# Altium schematic symbol library Custom1.SchLib: 476 symbols (part 9 of 16)
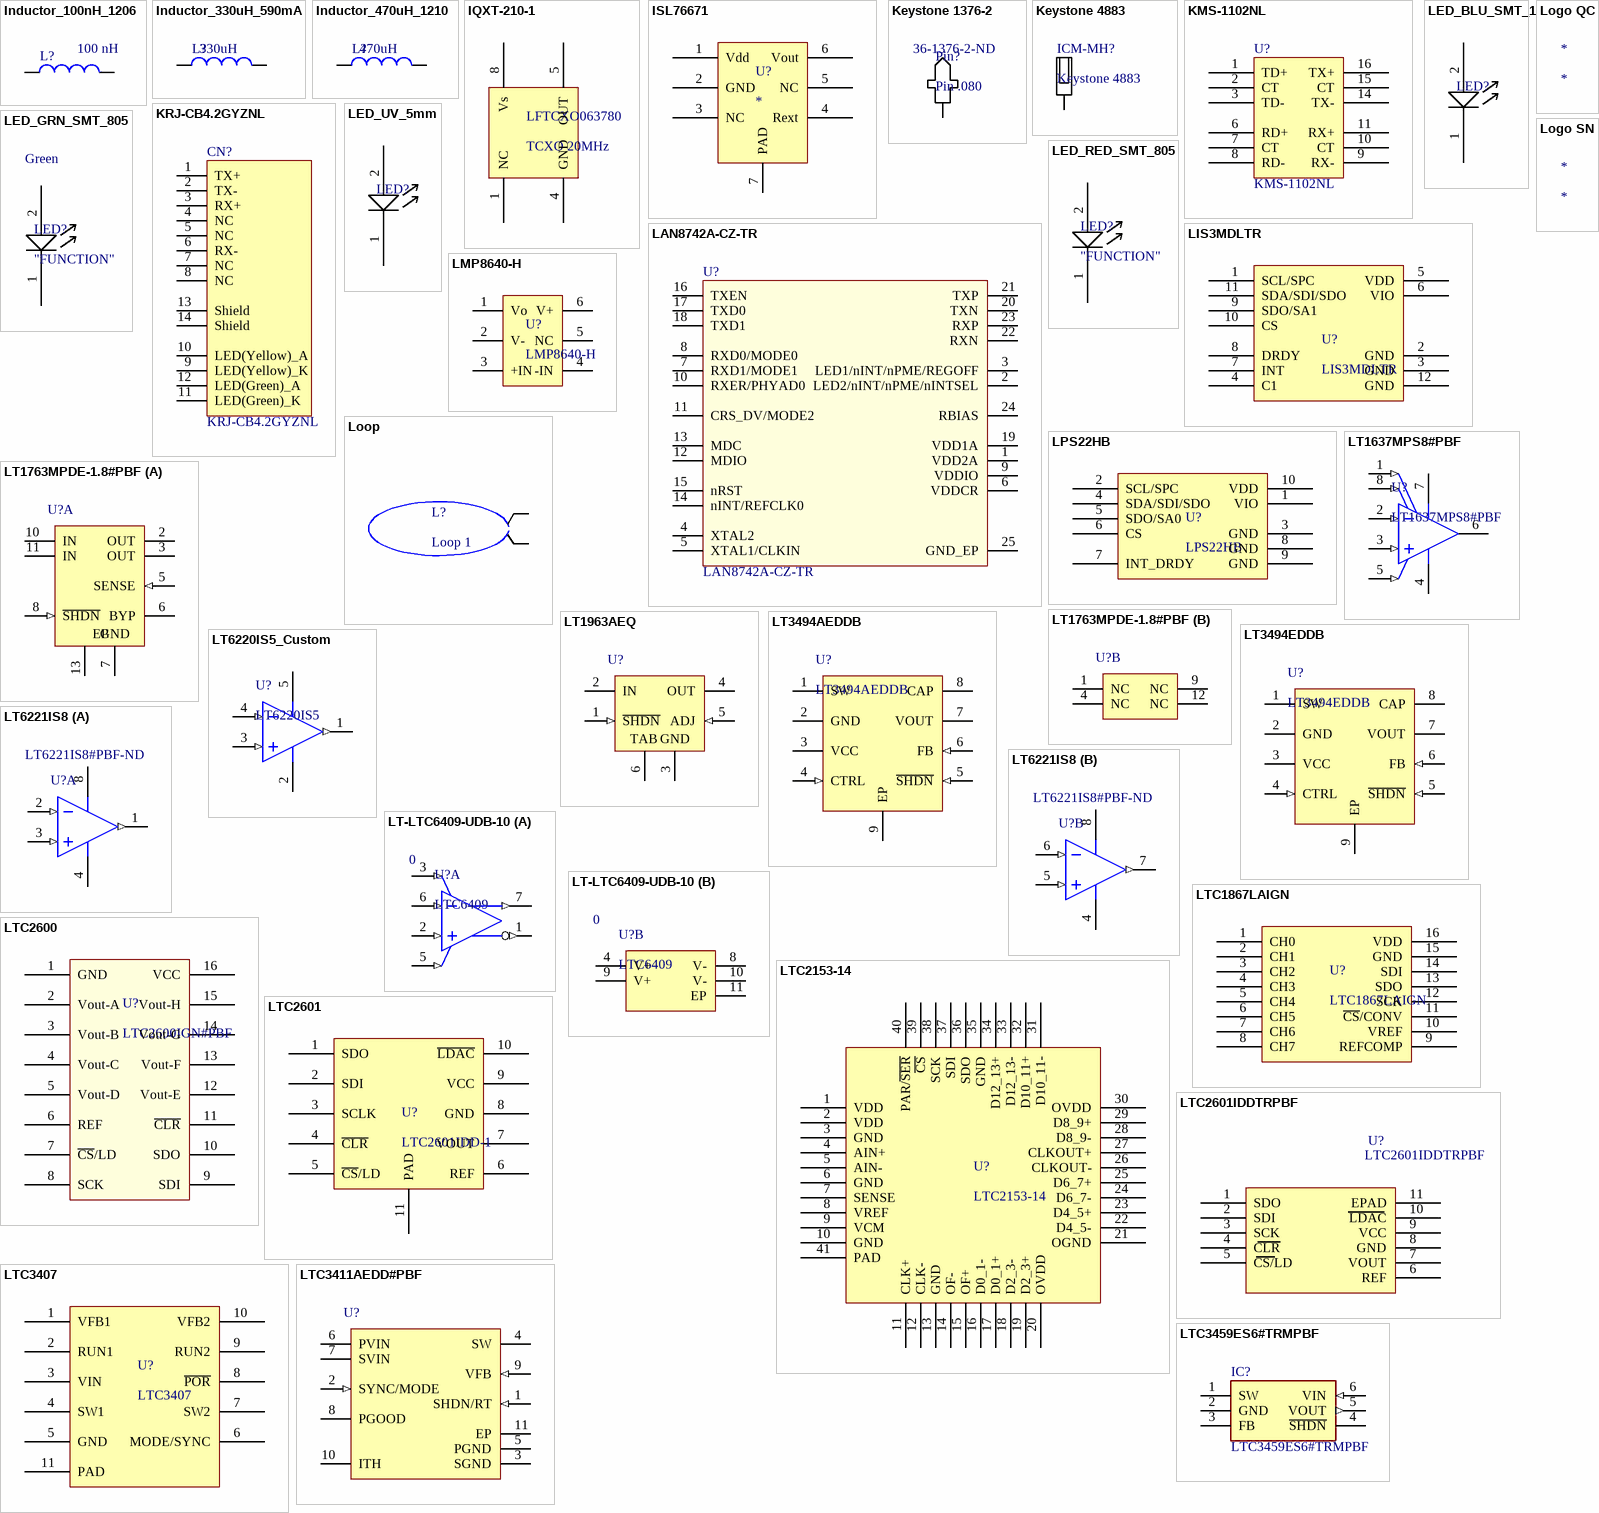
[diagram p33: symbols Inductor_100nH_1206 to LTC3459ES6#TRMPBF]

## LT3494AEDDB
designator U?
Micropower Low Noise Boost Converter with Output Disconnect, 8-pin SON (DDB-8), -40 to 85 degC 225mA; Manufacturer: Analog Devices / Linear Technology; Manufacturer Part Number: LT3494AEDDB#TRMPBF; Output Voltage: 40V; Min Input Voltage: 2.3V; Number of Outputs: 1; Synchronous Rectifier: No; Output Type: Adjustable; Output Configuration: Positive; ComponentLink1Description: Manufacturer URL; ComponentLink1URL: http://www.linear.com/; ComponentLink2Description: Datasheet; ComponentLink2URL: http://cds.linear.com/docs/en/datasheet/3494fb.pdf; ComponentLink3Description: Package Specification; ComponentLink3URL: http://cds.linear.com/docs/en/packaging/DFN_8_05-08-1702.pdf; ComponentLink4URL: http://www.linear.com/docs/17518; ComponentLink4Description: http://www.linear.com/docs/17518; ComponentLink5URL: https://datasheet.ciiva.com/2024/17518-2024373.pdf?src-supplier=Digi-Key; ComponentLink5Description: https://datasheet.ciiva.com/2024/17518-2024373.pdf?src-supplier=Digi-Key; ComponentLink6URL: https://datasheet.ciiva.com/15104/getdatasheetpartid-362812-15104183.pdf?src-supplier=Verical; ComponentLink6Description: https://datasheet.ciiva.com/15104/getdatasheetpartid-362812-15104183.pdf?src-supplier=Verical; ComponentLink7URL: https://datasheet.ciiva.com/7311/370161-7311930.pdf?src-supplier=Newark; ComponentLink7Description: https://datasheet.ciiva.com/7311/370161-7311930.pdf?src-supplier=Newark; ComponentLink8URL: https://datasheet.ciiva.com/14666/0900766b810eda14-14666618.pdf?src-supplier=RSComponents; ComponentLink8Description: https://datasheet.ciiva.com/14666/0900766b810eda14-14666618.pdf?src-supplier=RSComponents; ComponentLink9URL: https://datasheet.ciiva.com/26902/lt3494eddb-trmpbf-26902519.pdf?src-supplier=IIIC; ComponentLink9Description: https://datasheet.ciiva.com/26902/lt3494eddb-trmpbf-26902519.pdf?src-supplier=IIIC; ComponentLink10URL: https://datasheet.ciiva.com/2024/17518-2024374.pdf?src-supplier=Digi-Key; ComponentLink10Description: https://datasheet.ciiva.com/2024/17518-2024374.pdf?src-supplier=Digi-Key; ComponentLink11URL: https://datasheet.ciiva.com/2024/17518-2024375.pdf?src-supplier=Digi-Key; ComponentLink11Description: https://datasheet.ciiva.com/2024/17518-2024375.pdf?src-supplier=Digi-Key; ComponentLink12URL: https://datasheet.ciiva.com/7711/1692454-7711132.pdf?src-supplier=Element14; ComponentLink12Description: https://datasheet.ciiva.com/7711/1692454-7711132.pdf?src-supplier=Element14; ComponentLink13URL: https://datasheet.ciiva.com/6188/1692454-6188045.pdf?src-supplier=Farnell; ComponentLink13Description: https://datasheet.ciiva.com/6188/1692454-6188045.pdf?src-supplier=Farnell; Supplier 1: Digi-Key; Stock 1: 1973; Pricing 1: 1=3.76000, 25=2.49400, 100=2.06210, 250=1.95896 (USD); RoHS: Yes; Case/Package: DFN EP; Number of Pins: 8; Min Operating Temperature: -40°C; Max Operating Temperature: 85°C; Package Quantity: 500; Packaging: Tape and Reel; Output Current: 225mA; Min Output Voltage: 2.3V; Max Output Voltage: 40V; Topology: Boost; Length: 3mm; Radiation Hardening: No; Lead Free: Lead Free; ComponentLink14URL: https://datasheet.ciiva.com/15104/getdatasheetpartid-364612-15104212.pdf?src-supplier=Verical; ComponentLink14Description: https://datasheet.ciiva.com/15104/getdatasheetpartid-364612-15104212.pdf?src-supplier=Verical; ComponentLink15URL: https://datasheet.ciiva.com/26896/lt3494aeddb-trmpbf-26896193.pdf?src-supplier=IIIC; ComponentLink15Description: https://datasheet.ciiva.com/26896/lt3494aeddb-trmpbf-26896193.pdf?src-supplier=IIIC; ComponentLink16URL: https://datasheet.ciiva.com/6603/17518-6603542.pdf?src-supplier=Digi-Key; ComponentLink16Description: https://datasheet.ciiva.com/6603/17518-6603542.pdf?src-supplier=Digi-Key; ComponentLink17URL: https://datasheet.ciiva.com/6603/17518-6603543.pdf?src-supplier=Digi-Key; ComponentLink17Description: https://datasheet.ciiva.com/6603/17518-6603543.pdf?src-supplier=Digi-Key; ComponentLink18URL: https://datasheet.ciiva.com/6603/17518-6603545.pdf?src-supplier=Digi-Key; ComponentLink18Description: https://datasheet.ciiva.com/6603/17518-6603545.pdf?src-supplier=Digi-Key; Supplier Part Number 1: LT3494AEDDB#TRMPBFCT-ND
footprint LT-DDB-8_V (SON, 8-Leads, Body 3x2mm, Pitch 0.5mm, Thermal Pad 2.2x0.61mm)
pins: 1 SW "Switch Pin. This is the collector of the internal NPN power switch. Minimize the metal trace area connected to this pin to minimize EMI.", 2 GND (power) "Ground. Tie directly to local ground plane.", 3 VCC (power) "Input Supply Pin. Must be locally bypassed.", 4 CTRL (in) "Dimming Pin. If not used, tie CTRL to 1.5V or higher. If in use, drive CTRL below 1.225V to override the internal reference. See Applications Information for more information.", 5 ~{SHDN} (in) "Shutdown Pin. Tie to 1.5V or more to enable device. Ground to shut down.", 6 FB (in) "Feedback Pin. Reference voltage is 1.225V. There is an internal 182k resistor from the FB pin to GND. To achieve the desired output voltage, choose R1 according to the following formula: R1=182 x (VOUT(MAX)/1.225-1) kohm", 7 VOUT (power) "Drain of Output Disconnect PMOS. Place a bypass capacitor from this pin to GND. See Applications Information.", 8 CAP "This is the cathode of the internal Schottky diode. Place a bypass capacitor from this pin to GND.", 9 EP (power) "Ground. This pin must be soldered to PCB."

## LT3494EDDB
designator U?
Micropower Low Noise Boost Converter with Output Disconnect, 8-pin SON (DDB-8), -40 to 85 degC; Manufacturer: Analog Devices / Linear Technology; Manufacturer Part Number: LT3494EDDB#TRMPBF; Max Output Current: 27mA; Output Voltage: 40V; Min Input Voltage: 2.3V; Output Current: 180mA; Max Input Voltage: 16V; Number of Outputs: 1; Synchronous Rectifier: No; Min Output Voltage: 0uV; Output Type: Adjustable; ComponentLink1Description: Manufacturer URL; ComponentLink1URL: http://www.linear.com/; ComponentLink2Description: Datasheet; ComponentLink2URL: http://cds.linear.com/docs/en/datasheet/3494fb.pdf; ComponentLink3Description: Package Specification; ComponentLink3URL: http://cds.linear.com/docs/en/packaging/DFN_8_05-08-1702.pdf; ComponentLink4URL: http://www.linear.com/docs/17518; ComponentLink4Description: http://www.linear.com/docs/17518; Supplier 1: Digi-Key; Stock 1: 20953; Pricing 1: 1=3.76000, 25=2.49400, 100=2.06210, 250=1.95896 (USD); RoHS: Yes; Case/Package: DFN; Number of Pins: 8; Min Operating Temperature: -40°C; Max Operating Temperature: 85°C; Package Quantity: 1; Packaging: Tape and Reel; Max Output Voltage: 40V; Topology: Boost; Length: 3mm; Height: 0.75mm; Width: 2mm; Radiation Hardening: No; REACH SVHC: No SVHC; Lead Free: Lead Free; ComponentLink5URL: https://datasheet.ciiva.com/2024/17518-2024373.pdf?src-supplier=Digi-Key; ComponentLink5Description: https://datasheet.ciiva.com/2024/17518-2024373.pdf?src-supplier=Digi-Key; ComponentLink6URL: https://datasheet.ciiva.com/15104/getdatasheetpartid-362812-15104183.pdf?src-supplier=Verical; ComponentLink6Description: https://datasheet.ciiva.com/15104/getdatasheetpartid-362812-15104183.pdf?src-supplier=Verical; ComponentLink7URL: https://datasheet.ciiva.com/7311/370161-7311930.pdf?src-supplier=Newark; ComponentLink7Description: https://datasheet.ciiva.com/7311/370161-7311930.pdf?src-supplier=Newark; ComponentLink8URL: https://datasheet.ciiva.com/14666/0900766b810eda14-14666618.pdf?src-supplier=RSComponents; ComponentLink8Description: https://datasheet.ciiva.com/14666/0900766b810eda14-14666618.pdf?src-supplier=RSComponents; ComponentLink9URL: https://datasheet.ciiva.com/26902/lt3494eddb-trmpbf-26902519.pdf?src-supplier=IIIC; ComponentLink9Description: https://datasheet.ciiva.com/26902/lt3494eddb-trmpbf-26902519.pdf?src-supplier=IIIC; ComponentLink10URL: https://datasheet.ciiva.com/2024/17518-2024374.pdf?src-supplier=Digi-Key; ComponentLink10Description: https://datasheet.ciiva.com/2024/17518-2024374.pdf?src-supplier=Digi-Key; ComponentLink11URL: https://datasheet.ciiva.com/2024/17518-2024375.pdf?src-supplier=Digi-Key; ComponentLink11Description: https://datasheet.ciiva.com/2024/17518-2024375.pdf?src-supplier=Digi-Key; ComponentLink12URL: https://datasheet.ciiva.com/7711/1692454-7711132.pdf?src-supplier=Element14; ComponentLink12Description: https://datasheet.ciiva.com/7711/1692454-7711132.pdf?src-supplier=Element14; ComponentLink13URL: https://datasheet.ciiva.com/6188/1692454-6188045.pdf?src-supplier=Farnell; ComponentLink13Description: https://datasheet.ciiva.com/6188/1692454-6188045.pdf?src-supplier=Farnell; Supplier Part Number 1: LT3494EDDB#TRMPBFCT-ND
footprint LT-DDB-8_V (SON, 8-Leads, Body 3x2mm, Pitch 0.5mm, Thermal Pad 2.2x0.61mm)
pins: 1 SW "Switch Pin. This is the collector of the internal NPN power switch. Minimize the metal trace area connected to this pin to minimize EMI.", 2 GND (power) "Ground. Tie directly to local ground plane.", 3 VCC (power) "Input Supply Pin. Must be locally bypassed.", 4 CTRL (in) "Dimming Pin. If not used, tie CTRL to 1.5V or higher. If in use, drive CTRL below 1.225V to override the internal reference. See Applications Information for more information.", 5 ~{SHDN} (in) "Shutdown Pin. Tie to 1.5V or more to enable device. Ground to shut down.", 6 FB (in) "Feedback Pin. Reference voltage is 1.225V. There is an internal 182k resistor from the FB pin to GND. To achieve the desired output voltage, choose R1 according to the following formula: R1=182 x (VOUT(MAX)/1.225-1) kohm", 7 VOUT (power) "Drain of Output Disconnect PMOS. Place a bypass capacitor from this pin to GND. See Applications Information.", 8 CAP "This is the cathode of the internal Schottky diode. Place a bypass capacitor from this pin to GND.", 9 EP (power) "Ground. This pin must be soldered to PCB."

## LT6220IS5_Custom
designator U?, comment LT6220IS5
Single Channel, Low Power Precision Operational Amplifier, RRIO, 60 MHz Typical GBW, 20 V/us Typical SR, 2.2 to 12.6 V, 5-Pin SOT23 (S5-5), Industrial, Pb-Free; Linear Technology Part Number: LT6220; Manufacturer: Linear Technology; PartNumber: LT6220IS5#PBF; Manufacturer Part Number: LT6220IS5#TRMPBF; Channels (#): 1; GBW (MHz) Typical: 60; Is (mA) Typical: 0.9; SR (V/us) Typical: 20; Vos (mV) Guaranteed: 0.35; Vos (mV) Typical: 0.07; Vs Max (V): 12.6; Vs Min (V): 2.2; Amplifier Type: General Purpose; Output Type: Rail-to-Rail; Slew Rate: 20 V/µs; Gain Bandwidth Product: 60MHz; Current - Input Bias: 250nA; Voltage - Input Offset: 700µV; Current - Supply: 1mA; Current - Output / Channel: 50mA; Voltage - Supply, Single/Dual (±): 2.2 V ~ 12.6 V, ±1.1 V ~ 6.3 V; PackageReference: LT-S5-5-TSOT-23; PackageDescription: 5-Lead Plastic TSOT-23, Body 1.63 x 2.90 mm, Pitch 0.95 mm; RoHS: Pb-Free; Type: VFB; Mounting Technology: Surface Mount; Code_JEDEC: MO-193; ComponentLink1Description: Datasheet; ComponentLink1URL: http://cds.linear.com/docs/Datasheet/622012fa.pdf; ComponentLink2Description: Package Specification; ComponentLink2URL: http://cds.linear.com/docs/Packaging/SOT_5_05-08-1635.pdf; Supplier 1: Digi-Key; Supplier Part Number 1: LT6220IS5#TRMPBFCT-ND; Category: Integrated Circuits (ICs); Stock: 2355; Pricing: 1=3.49, 25=3.1156, 100=2.804 (USD); Packaging: Cut Tape (CT); Number of Circuits: 1; -3db Bandwidth: -; Operating Temperature: -40°C ~ 85°C; Mounting Type: Surface Mount; Package / Case: SOT-23-5 Thin, TSOT-23-5; Supplier Device Package: TSOT-23-5; ComponentLink3URL: http://www.linear.com/docs/2957; ComponentLink3Description: http://www.linear.com/docs/2957
footprint LT-S5-5-TSOT-23_N_Custom (SOT23, 5-Leads, Body 2.90x1.63mm, Pitch 0.95mm, IPC Medium Density)
pins: 1 VOUT (out), 2 VS- (power), 3 +IN (in), 4 -IN (in), 5 VS+ (power)

## LT6221IS8
designator U?  Supplier Part Number 1: LT6221IS8#PBF-ND
Dual Channel, Low Power Precision Operational Amplifier, RRIO, 60 MHz Typical GBW, 20 V/us Typical SR, 2.2 to 12.6 V, 8-Pin SOIC (S8-8), Industrial; Manufacturer: Linear Technology; Manufacturer Part Number: LT6221IS8#PBF; Amplifier Type: General Purpose; Number of Circuits: 2; Output Type: Rail-to-Rail; Slew Rate: 20 V/µs; Gain Bandwidth Product: 60MHz; Current - Input Bias: 250nA; Voltage - Input Offset: 700µV; Current - Supply: 1mA; Current - Output / Channel: 50mA; Voltage - Supply, Single/Dual (±): 2.2 V ~ 12.6 V, ±1.1 V ~ 6.3 V; Supplier 1: Digi-Key; RoHS: RoHS Compliant; Category: Integrated Circuits (ICs); Stock 1: 1237; Pricing 1: 1=4.52, 25=3.0028, 100=2.59 (USD); Packaging: Tube; -3db Bandwidth: -; Operating Temperature: -40°C ~ 85°C; Mounting Type: Surface Mount; Package / Case: 8-SOIC (0.154", 3.90mm Width); Supplier Device Package: 8-SO; ComponentLink1URL: http://www.linear.com/docs/2957; ComponentLink1Description: http://www.linear.com/docs/2957
footprint LT-S8-8_N (SOIC, 8-Leads, Body 4.9x3.9mm, Pitch 1.27mm, IPC Medium Density)
pins on every part: 4 VS- (power), 8 VS+ (power)
part A pins: 1 OUT A (out), 2 -IN A (in), 3 +IN A (in)
part B pins: 5 +IN B (in), 6 -IN B (in), 7 OUT B (out)

## LT-LTC6409-UDB-10
designator U?, comment LTC6409  Stock: 0
LTC6409IUDB; Manufacturer: Linear Technology; Manufacturer Part Number: LTC6409CUDB#TRMPBF; Supplier 1: Digi-Key; RoHS: RoHS Compliant; Category: Integrated Circuits (ICs); Stock 1: 721; Pricing 1: 1=10.89, 25=9.7232, 100=8.751 (USD); Packaging: Cut Tape (CT); Type: ADC Driver; Applications: Data Acquisition; Mounting Type: Surface Mount; Package / Case: 10-VFQFN Exposed Pad; Supplier Device Package: 10-QFN (3x2); ComponentLink1URL: http://www.linear.com/docs/29893; ComponentLink1Description: http://www.linear.com/docs/29893; Supplier 2: Newark; Supplier Part Number 1: LTC6409CUDB#TRMPBFCT-ND; Supplier Part Number 2: 24T2686; Supplier 3: Digi-Key; Supplier Part Number 3: LTC6409IUDB#TRMPBF-ND; Pricing: 500=5.82 (USD)
footprint LT-UDB-10_N (QFN, 10-Leads, Body 3x2mm, Pitch 0.5mm, Thermal Pad 0.9x0.25mm, IPC Medium Density)
part A pins: 1 -OUT (out) "Differential Output Pin.", 2 +IN (in) "Non-Inverting and Inverting Input Pins.", 3 ~{SHDN} (in) "When SHDN is floating or directly tied to V+, the LTC6409 is in the normal (active) operating mode. When the SHDN pin is connected to V-, the part is disabled and draws approximately 100uA of supply current.", 5 VOCM (in) "Output Common Mode Reference Voltage. The voltage on this pin sets the output common mode voltage level. If left floating, an internal resistor divider develops a default voltage of 1.25V with a 5V supply.", 6 -IN (in) "Non-Inverting and Inverting Input Pins.", 7 +OUT (out) "Differential Output Pin."
part B pins: 4 V+ (power) "Positive and Negative Power Supply Pins. Similar pins should be connected to the same voltage.", 8 V- (power) "Positive and Negative Power Supply Pins. Similar pins should be connected to the same voltage.", 9 V+ (power) "Positive and Negative Power Supply Pins. Similar pins should be connected to the same voltage.", 10 V- (power) "Positive and Negative Power Supply Pins. Similar pins should be connected to the same voltage.", 11 EP (power) "Tie the bottom pad to V-. If split supplies are used, DO NOT tie the pad to ground."

## LTC1867LAIGN
designator U?
IC ADC 16BIT 8CH 175KSPS 16SSOP; Manufacturer: Linear Technology; Manufacturer Part Number: LTC1867LAIGN#PBF; Number of Bits: 16; Sampling Rate (Per Second): 200k; Number of Inputs: 8; Input Type: Differential, Single Ended; Data Interface: SPI; Configuration: MUX-ADC; Ratio - S/H:ADC: 1:1; Number of A/D Converters: 1; Architecture: SAR; Reference Type: External, Internal; Voltage - Supply, Analog: 2.7 V ~ 3.6 V; Supplier 1: Digi-Key; RoHS: RoHS Compliant; Category: Integrated Circuits (ICs); Stock 1: 830; Pricing 1: 1=17.79, 25=15.8, 100=13.01 (USD); Packaging: Tube; Voltage - Supply, Digital: 2.7 V ~ 3.6 V; Features: -; Operating Temperature: -40°C ~ 85°C; Package / Case: 16-SSOP (0.154", 3.90mm Width); Supplier Device Package: 16-SSOP; ComponentLink1URL: http://www.linear.com/pc/downloadDocument.do?navId=H0,C1,C1155,C1001,C1158,P9357,D6698; ComponentLink1Description: http://www.linear.com/pc/downloadDocument.do?navId=H0,C1,C1155,C1001,C1158,P9357,D6698; Supplier Part Number 1: LTC1867LAIGN#PBF-ND
footprint SSOP 16 Narrow 0.150 (SSOP; 16 Leads; Body Width 3.9 mm; Pitch 0.635 mm)
pins: 1 CH0, 2 CH1, 3 CH2, 4 CH3, 5 CH4, 6 CH5, 7 CH6, 8 CH7, 9 REFCOMP, 10 VREF, 11 ~{CS}/CONV, 12 SCK, 13 SDO, 14 SDI, 15 GND, 16 VDD

## LTC2153-14
designator U?
Manufacturer: Linear Technology; Manufacturer Part Number: LTC2153IUJ-14#PBF; Number of Bits: 14; Sampling Rate (Per Second): 310M; Data Interface: DDR LVDS; Number of Converters: 1; Power Dissipation (Max): 479mW; Voltage Supply Source: Analog and Digital; Number of Inputs and Type: 1 Differential; Supplier 1: Digi-Key; Supplier Part Number 1: LTC2153IUJ-14#PBF-ND; RoHS: RoHS Compliant; Category: Integrated Circuits (ICs); Pricing: 61=141.43016 (USD); Packaging: Tube; Operating Temperature: -40°C ~ 85°C; Mounting Type: Surface Mount; Package / Case: 40-WFQFN Exposed Pad; Supplier Device Package: 40-QFN (6x6); ComponentLink1URL: http://www.linear.com/docs/40561; ComponentLink1Description: http://www.linear.com/docs/40561; Stock: 0
footprint QFN50P605X605X80_HS-41N (QFN, 40-Leads, Body 6.05x6.05mm, Pitch 0.50mm, Thermal Pad 4.42x4.42mm, IPC Medium Density)
footprint QFN50P605X605X80_HS-41N - Paste Dot (QFN, 40-Leads, Body 6.05x6.05mm, Pitch 0.50mm, Thermal Pad 4.42x4.42mm, IPC Medium Density)
pins: 1 VDD, 2 VDD, 3 GND, 4 AIN+, 5 AIN-, 6 GND, 7 SENSE, 8 VREF, 9 VCM, 10 GND, 11 CLK+, 12 CLK-, 13 GND, 14 OF-, 15 OF+, 16 D0_1-, 17 D0_1+, 18 D2_3-, 19 D2_3+, 20 OVDD, 21 OGND, 22 D4_5-, 23 D4_5+, 24 D6_7-, 25 D6_7+, 26 CLKOUT-, 27 CLKOUT+, 28 D8_9-, 29 D8_9+, 30 OVDD, 31 D10_11-, 32 D10_11+, 33 D12_13-, 34 D12_13+, 35 GND, 36 SDO, 37 SDI, 38 SCK, 39 ~{CS}, 40 PAR/~{SER}, 41 PAD

## LTC2600
designator U?, comment LTC2600IGN#PBF
Octal 16bit DAC; Manufacturer: Linear Technology; Number of Bits: 16; Number of D/A Converters: 8; Settling Time: 10µs (Typ); Output Type: Voltage - Buffered; Differential Output: No; Data Interface: SPI; Reference Type: External; Voltage - Supply, Analog: 2.5 V ~ 5.5 V; INL/DNL (LSB): ±12, ±1 (Max); Supplier 1: Digi-Key; Manufacturer Part Number: LTC2600IGN#PBF; RoHS: RoHS Compliant; Category: Integrated Circuits (ICs); Stock 1: 480; Pricing 1: 1=26.43, 25=21.1452, 100=17.55 (USD); Packaging: Tube; Voltage - Supply, Digital: 2.5 V ~ 5.5 V; Architecture: -; Operating Temperature: -40°C ~ 85°C; Package / Case: 16-SSOP (0.154", 3.90mm Width); Supplier Device Package: 16-SSOP; ComponentLink1URL: http://www.linear.com/docs/1753; ComponentLink1Description: http://www.linear.com/docs/1753; Supplier Part Number 1: LTC2600IGN#PBF-ND
footprint SSOP 16 Narrow 0.150 (SSOP; 16 Leads; Body Width 3.9 mm; Pitch 0.635 mm)
pins: 1 GND, 2 Vout-A, 3 Vout-B, 4 Vout-C, 5 Vout-D, 6 REF, 7 ~{CS}/LD, 8 SCK, 9 SDI, 10 SDO, 11 ~{CLR}, 12 Vout-E, 13 Vout-F, 14 Vout-G, 15 Vout-H, 16 VCC

## LTC2601
designator U?, comment LTC2601IDD-1
16 Bit DAC ext Ref; Manufacturer: Linear Technology; Manufacturer Part Number: LTC2601IDD-1#PBF; Settling Time: 10µs; Number of Bits: 16; Data Interface: Serial; Number of Converters: 1; Voltage Supply Source: Single Supply; Power Dissipation (Max): 1.88mW; Number of Outputs and Type: 1 Voltage, Unipolar; Supplier 1: Digi-Key; Supplier Part Number 1: LTC2601IDD-1#PBF-ND; RoHS: RoHS Compliant; Category: Integrated Circuits (ICs); Stock: 468; Pricing: 1=6.03, 25=4.004, 100=3.45 (USD); Packaging: Tube; Operating Temperature: -40°C ~ 85°C; Mounting Type: Surface Mount; Package / Case: 10-WFDFN Exposed Pad; Supplier Device Package: 10-DFN (3x3); Sampling Rate (Per Second): *; ComponentLink1URL: http://www.linear.com/docs/2796; ComponentLink1Description: http://www.linear.com/docs/2796
footprint QFN50P300X300X80_HS-11N (QFN, 10-Leads, Body 3.00x3.00mm, Pitch 0.50mm, Thermal Pad 2.38x1.65mm, IPC Medium Density)
pins: 1 SDO, 2 SDI, 3 SCLK, 4 ~{CLR}, 5 ~{CS}/LD, 6 REF, 7 VOUT, 8 GND, 9 VCC, 10 ~{LDAC}, 11 PAD

## LTC2601IDDTRPBF
designator U?
LTC2601 - 16-Bit Rail-to-Rail DACs in 10-Lead DFN; Manufacturer: Analog Devices / Linear Technology; MF: Linear Technology; MP: LTC2601IDD#TRPBF; Interface: Serial; Settling Time: 10us; Number of Bits: 16; Number of Channels: 1; Max Supply Voltage: 5.5V; Min Supply Voltage: 2.5V; Resolution: 16b; Supply Type: Single; Integral Nonlinearity (INL): 64LSB; Output Type: Voltage; Digi-Key_Part_Number: LTC2601IDD#TRPBFCT-ND; Digi-Key_Purchase_URL: https://www.digikey.com/product-detail/en/linear-technology-analog-devices/LTC2601IDD-TRPBF/LTC2601IDD-TRPBFCT-ND/8826864?utm_source=snapeda&utm_medium=aggregator&utm_campaign=symbol; Package: DFN-10 Linear Technology; SnapEDA_Link: https://www.snapeda.com/parts/LTC2601IDD%23TRPBF/Analog%20Devices/view-part/?ref=snap; Value: *; Supplier 1: Digi-Key; Manufacturer Part Number: LTC2601IDD#TRPBF; Stock 1: 2567; Pricing 1: 1=7.64000, 25=5.32520, 100=4.19620, 250=3.98640, 500=3.89650 (USD); RoHS: Yes; Mount: Surface Mount; Case/Package: DFN; Number of Pins: 10; Min Operating Temperature: -40°C; Max Operating Temperature: 85°C; Package Quantity: 2500; Packaging: Tape and Reel; Number of Converters: 1; Lead Free: Lead Free; ComponentLink1URL: https://datasheet.ciiva.com/1373/2796-1373491.pdf?src-supplier=Digi-Key; ComponentLink1Description: https://datasheet.ciiva.com/1373/2796-1373491.pdf?src-supplier=Digi-Key; Supplier Part Number 1: LTC2601IDD#TRPBFCT-ND
footprint DFN-10_DD
pins: 1 SDO, 2 SDI, 3 SCK, 4 CLR, 5 CS/LD, 6 REF, 7 VOUT, 8 GND (power), 9 VCC (power), 10 LDAC, 11 EPAD

## LTC3407
designator U?
LTC3407 Dual SW Reg; Manufacturer: Linear Technology; Manufacturer Part Number: LTC3407AIDD-2#PBF; Output Type: Adjustable; Number of Outputs: 2; Voltage - Output: 0.6 V ~ 5 V; Voltage - Input: 2.5 V ~ 5.5 V; PWM Type: Current Mode, Burst Mode®; Frequency - Switching: 2.25MHz; Current - Output: 800mA; Synchronous Rectifier: Yes; Supplier 1: Digi-Key; Supplier Part Number 1: LTC3407AIDD-2#PBF-ND; RoHS: RoHS Compliant; Category: Integrated Circuits (ICs); Stock: 0; Pricing: 242=3.99 (USD); Packaging: Tube; Type: Step-Down (Buck); Operating Temperature: -40°C ~ 125°C; Mounting Type: Surface Mount; Package / Case: 10-WFDFN Exposed Pad; Supplier Device Package: 10-DFN (3x3); ComponentLink1URL: http://cds.linear.com/docs/en/datasheet/3407a2f.pdf; ComponentLink1Description: http://cds.linear.com/docs/en/datasheet/3407a2f.pdf
footprint QFN50P300X300X80_HS-11N (QFN, 10-Leads, Body 3.00x3.00mm, Pitch 0.50mm, Thermal Pad 2.38x1.65mm, IPC Medium Density)
pins: 1 VFB1, 2 RUN1, 3 VIN, 4 SW1, 5 GND, 6 MODE/SYNC, 7 SW2, 8 ~{POR}, 9 RUN2, 10 VFB2, 11 PAD

## LTC3411AEDD#PBF
designator U?
1.25 A, 4 MHz, Synchronous Step-Down DC/DC Converter, 10-pin SON (DD-10), -40 to 125 degC, Pb-Free; Manufacturer: Linear Technology; PartNumber: LTC3411AEDD#PBF; Frequency Sync Range: 400kHz - 4MHz; Number of Outputs: 1; DatasheetVersion: Rev. B; PackageVersion: Rev. C, 06/2010; PackageReference: DD-10; PackageDescription: 10-Pin Plastic DFN, Body 3 x 3 mm, Pitch 0.5 mm; Supplier 1: Digi-Key; Supplier Part Number 1: LTC3411AEDD#PBF-ND; RoHS: TRUE; Mounting Technology: Surface Mount; Code_JEDEC: MO-229; ComponentLink1Description: Manufacturer URL; ComponentLink1URL: http://www.linear.com/; ComponentLink2Description: Datasheet; ComponentLink2URL: http://cds.linear.com/docs/en/datasheet/3411afb.pdf; ComponentLink3Description: Package Specification; ComponentLink3URL: http://cds.linear.com/docs/en/packaging/DFN_10_05-08-1699.pdf
footprint LT-DD-10_V (SON, 10-Leads, Body 3x3mm, Pitch 0.5mm, Thermal Pad 2.38x1.65mm)
pins: 1 SHDN/RT (in) "Combination Shutdown and Timing Resistor Pin. The oscillator frequency is programmed by connecting a resistor from this pin to ground. Forcing this pin to SVIN causes the device to be shut down. In shutdown all functions are (See Datasheet)", 2 SYNC/MODE (in) "Combination Mode Selection and Oscillator Synchronization Pin. This pin controls the operation of the device. When tied to SVIN or SGND, Burst Mode operation or pulse skipping mode is selected, respectively. If this pin is (See Datasheet)", 3 SGND (power) "The Signal Ground Pin. All small-signal components and compensation components should be connected to this ground (see Board Layout Considerations).", 4 SW (power) "The Switch Node Connection to the Inductor. This pin swings from PVIN to PGND.", 5 PGND (power) "Main Power Ground Pin. Connect to the (-) terminal of COUT, and (-) terminal of CIN.", 6 PVIN (power) "Main Supply Pin. Must be closely decoupled to PGND.", 7 SVIN (power) "The Signal Power Pin. All active circuitry is powered from this pin. Must be closely decoupled to SGND. SVIN must be greater than or equal to PVIN.", 8 PGOOD (oc) "The Power Good Pin.", 9 VFB (in) "Receives the feedback voltage from the external resistive divider across the output. Nominal voltage for this pin is 0.8V.", 10 ITH "Error Amplifier Compensation Point.", 11 EP (power) "Power Ground."

## LTC3459ES6#TRMPBF
designator IC?
Integrated Circuit
footprint SOT95P280X100-6N
pins: 1 SW, 2 GND (power), 3 FB, 4 ~{SHDN}, 5 VOUT (out), 6 VIN (in)

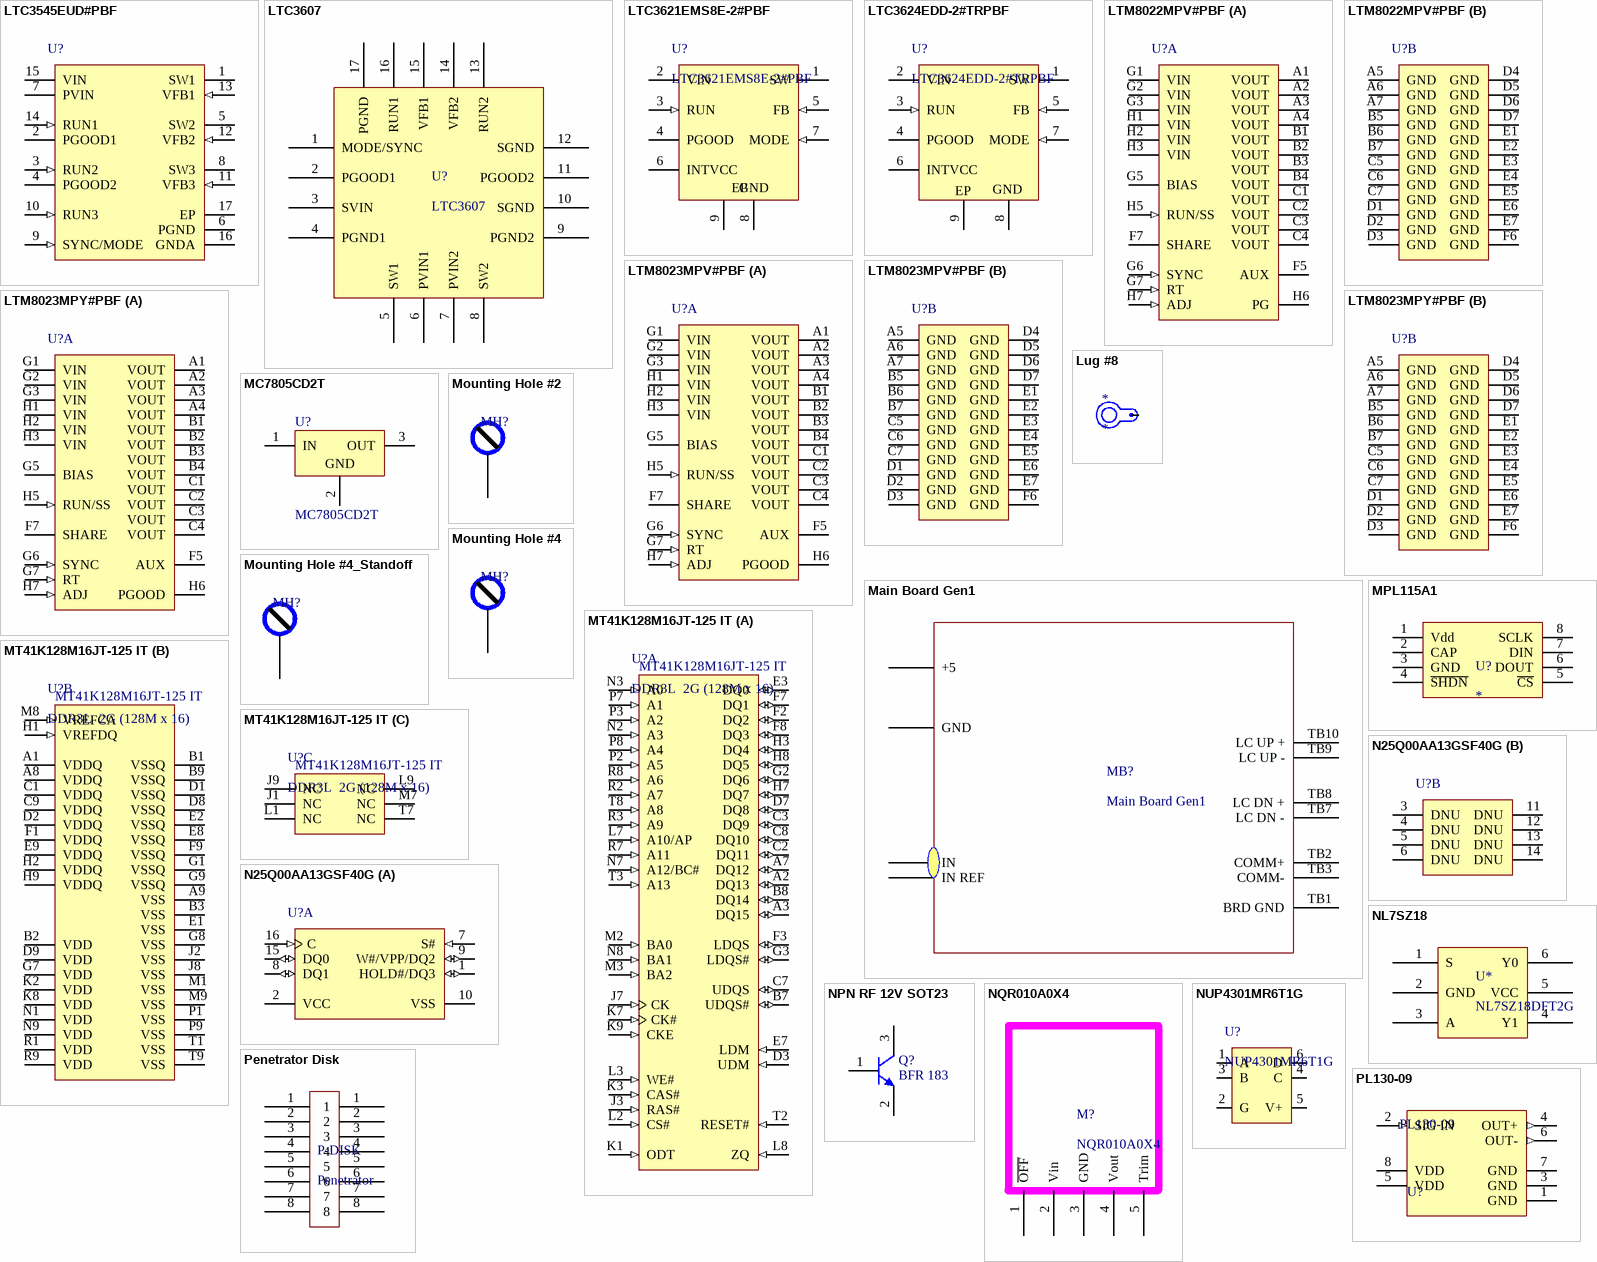
[diagram p18: symbols LTC3545EUD#PBF to PL130-09]

## LTC3545EUD#PBF
designator U?
Triple 800 mA Synchronous Step-Down Regulator - 2.25 MHz, 16-pin QFN (UD-16-EPV-AA), -40 to 125 degC, Pb-Free; Manufacturer: Linear Technology; PartNumber: LTC3545EUD#PBF; Number of Outputs: 3; DatasheetVersion: Rev. B; PackageVersion: Rev. A, 06/2010; PackageReference: UD-16; PackageDescription: 16-Pin Plastic QFN, Body 3 x 3 mm, Pitch 0.5 mm; Supplier 1: Digi-Key; Supplier Part Number 1: LTC3545EUD#PBF-ND; RoHS: TRUE; Mounting Technology: Surface Mount; Code_JEDEC: MO-220; ComponentLink1Description: Manufacturer URL; ComponentLink1URL: http://www.linear.com/; ComponentLink2Description: Datasheet; ComponentLink2URL: http://cds.linear.com/docs/en/datasheet/35451fb.pdf; ComponentLink3Description: Package Specification; ComponentLink3URL: http://cds.linear.com/docs/en/packaging/QFN_16_05-08-1700.pdf
footprint LT-UD-16-EPV-AA_L (QFN, 16-Leads, Body 3.1x3.1mm, Pitch 0.5mm, Thermal Pad 1.65x1.65mm, IPC High Density)
footprint LT-UD-16-EPV-AA_M (QFN, 16-Leads, Body 3.1x3.1mm, Pitch 0.5mm, Thermal Pad 1.65x1.65mm, IPC Low Density)
footprint LT-UD-16-EPV-AA_N (QFN, 16-Leads, Body 3.1x3.1mm, Pitch 0.5mm, Thermal Pad 1.65x1.65mm, IPC Medium Density)
pins: 1 SW1 (power) "Switch Node Connection to Inductor for Regulator 1. This pin connects to the internal power MOSFET switches.", 2 PGOOD1 (oc) "This open-drain output voltage is pulled to a logic low when VFB1 is below 0.54V (VOUT1 is below 90% of regulated level).", 3 RUN2 (in) "Regulator 2 Enable Pin. Apply a voltage greater than VRUN(HIGH) to enable this regulator", 4 PGOOD2 (oc) "This open-drain output voltage is pulled to a logic low when VFB2 is below 0.54V (VOUT2 is below 90% of regulated level).", 5 SW2 (power) "Switch Node Connection to Inductor for Regulator 2. This pin connects to the internal power MOSFET switches.", 6 PGND (power) "Regulators 2 and 3 Power Path Return.", 7 PVIN (power) "Power Path Supply Pin for Regulators 2 and 3. This pin must be closely decoupled to PGND, with a 4.7uF or greater ceramic capacitor.", 8 SW3 (power) "Switch Node Connection to Inductor for Regulator 3. This pin connects to the internal power MOSFET switches.", 9 SYNC/MODE (in) "This open-Mode Select and External Clock Input. When pulled low, part operates in Burst Mode operation. When pulled high, part operates in pulse skipping mode. When driven by a 1MHz to 3MHz external clock, the part operates (See Datasheet)", 10 RUN3 (in) "Regulator 3 Enable Pin. Apply a voltage greater than VRUN(HIGH) to enable this regulator", 11 VFB3 (in) "Regulator 3 Feedback Pin. This pin receives the feedback voltage from an external resistive divider across the output.", 12 VFB2 (in) "Regulator 2 Feedback Pin. This pin receives the feedback voltage from an external resistive divider across the output.", 13 VFB1 (in) "Regulator 1 Feedback Pin. This pin receives the feedback voltage from an external resistive divider across the output.", 14 RUN1 (in) "Regulator 1 Enable Pin. Apply a voltage greater than VRUN(HIGH) to enable this regulator", 15 VIN (power) "Supply Pin for Internal Reference and Control Circuitry. Power path supply for regulator 1.", 16 GNDA (power) "Ground Pin for Internal Reference and Control Circuitry. Power path return for regulator 1.", 17 EP (power) "GND. Must be soldered to the PCB."

## LTC3607
designator U?
Manufacturer: Linear Technology; Manufacturer Part Number: LTC3607IUD#PBF; Output Type: Adjustable; Number of Outputs: 2; Voltage - Output: 0.6 V ~ 15 V; Voltage - Input: 4.5 V ~ 15 V; PWM Type: Current Mode, Burst Mode®; Frequency - Switching: 2.25MHz; Current - Output: 600mA; Synchronous Rectifier: Yes; Supplier 1: Digi-Key; Supplier Part Number 1: LTC3607IUD#PBF-ND; RoHS: RoHS Compliant; Category: Integrated Circuits (ICs); Stock: 0; Pricing: 2500=2.76375 (USD); Packaging: *; Type: Step-Down (Buck); Operating Temperature: -40°C ~ 125°C; Mounting Type: *; Package / Case: *; Supplier Device Package: *; ComponentLink1URL: http://www.linear.com/docs/43571; ComponentLink1Description: http://www.linear.com/docs/43571
footprint QFN-16 (UD16_N) (16-Pin Plastic Quad Flat No-Lead 0.5 mm Pitch, IPC Medium Density)
pins: 1 MODE/SYNC, 2 PGOOD1, 3 SVIN, 4 PGND1, 5 SW1, 6 PVIN1, 7 PVIN2, 8 SW2, 9 PGND2, 10 SGND, 11 PGOOD2, 12 SGND, 13 RUN2, 14 VFB2, 15 VFB1, 16 RUN1, 17 PGND

## LTC3621EMS8E-2#PBF
designator U?
1 A Synchronous Step-Down Regulator with 3.5 uA Quiescent Current, 8-pin SOP (MS8E-8), -40 to 125 degC, Pb-Free; Manufacturer: Analog Devices / Linear Technology; Number of Outputs: 1; Min Input Voltage: 2.7V; Max Input Voltage: 17V; Min Output Voltage: 600mV; Output Current: 1A; Switching Frequency: 2.25MHz; Synchronous Rectifier: Yes; Output Type: Adjustable; Output Configuration: Positive; Supplier 1: Digi-Key; Manufacturer Part Number: LTC3621EMS8E-2#PBF; Stock 1: 1050; Pricing 1: 1 = 6.17000, 25 = 4.09760, 100 = 3.38800, 250 = 3.21860, 500 = 3.14600 (USD); RoHS: Yes; Case/Package: SOP; Number of Pins: 8; Min Operating Temperature: -40°C; Max Operating Temperature: 125°C; Package Quantity: 50; Packaging: Rail/Tube; Max Output Voltage: 17V; Output Voltage: 17V; Supplier Part Number 1: LTC3621EMS8E-2#PBF-ND; ComponentLink1Description: Supplier link; ComponentLink1URL: https://www.digikey.com/products/en?keywords=LTC3621EMS8E-2%23PBF-ND; ComponentLink2Description: Datasheet; ComponentLink2URL: http://www.linear.com/docs/42954
footprint LT-MS8E-8-1880X1680TP_N (SOP, 8-Leads, Body 3.1x3.1mm, Pitch 0.65mm, Thermal Pad 1.88x1.68mm, IPC Medium Density)
footprint LT-MS8E-8-1880X1680TP_L (SOP, 8-Leads, Body 3.1x3.1mm, Pitch 0.65mm, Thermal Pad 1.88x1.68mm, IPC High Density)
footprint LT-MS8E-8-1880X1680TP_M (SOP, 8-Leads, Body 3.1x3.1mm, Pitch 0.65mm, Thermal Pad 1.88x1.68mm, IPC Low Density)
pins: 1 SW (power) "Switch Node Connection to the Inductor of the Step-Down Regulator.", 2 VIN (power) "Input Voltage of the Step-Down Regulator", 3 RUN (in) "Logic Controlled RUN Input. Do not leave this pin floating. Logic high activates the step-down regulator.", 4 PGOOD (oc) "VOUT within Regulation Indicator.", 5 FB (in) "Feedback Input to the Error Amplifier of the Step-Down Regulator. Connect a resistor divider tap to this pin.", 6 INTVCC (power) "Low Dropout Regulator. Bypass with at least 1uF to Ground.", 7 MODE (in) "Burst Mode Select of the Step-Down Regulator. Tie MODE to INTVCC for Burst Mode operation with a 400mA peak current clamp, tie MODE to GND for pulse skipping operation, and tie MODE to a voltage between 1V and VINTVCC - 1V (See Datasheet)", 8 SGND (power) "Signal Ground.", 9 EP (power) "Ground Backplane for Power and Signal Ground. Must be soldered to PCB ground."
text: GND

## LTC3624EDD-2#TRPBF
designator U?
IC REG BUCK ADJUSTABLE 2A 8DFN; Manufacturer: Analog Devices / Linear Technology; Number of Outputs: 1; Min Input Voltage: 2.7V; Max Input Voltage: 17V; Min Output Voltage: 600mV; Switching Frequency: 2.25MHz; Synchronous Rectifier: Yes; Output Configuration: Positive; ComponentLink1URL: http://www.linear.com/docs/44403; ComponentLink1Description: http://www.linear.com/docs/44403; Supplier 1: Digi-Key; Manufacturer Part Number: LTC3624EDD-2#TRPBF; Stock 1: 2427; Pricing 1: 1 = 7.51000, 25 = 5.52000, 100 = 4.12410, 250 = 3.91792, 500 = 3.82954 (USD); RoHS: Yes; Mount: Surface Mount; Case/Package: DFN; Number of Pins: 8; Min Operating Temperature: -40°C; Max Operating Temperature: 125°C; Package Quantity: 2500; Packaging: Tape and Reel; Max Output Voltage: 17V; Output Current: 2A; Output Voltage: 17V; Output Type: Adjustable; ComponentLink2URL: https://datasheet.ciiva.com/29736/44403-29736526.pdf?src-supplier=Digi-Key; ComponentLink2Description: https://datasheet.ciiva.com/29736/44403-29736526.pdf?src-supplier=Digi-Key; Supplier Part Number 1: LTC3624EDD-2#TRPBFCT-ND
footprint LT-DD-8_V (SON, 8-Leads, Body 3x3mm, Pitch 0.5mm, Thermal Pad 1.65x2.38 mm)
pins: 1 SW (power) "Switch Node Connection to the Inductor of the Step-Down Regulator.", 2 VIN (power) "Input Voltage of the Step-Down Regulator", 3 RUN (in) "Logic Controlled RUN Input. Do not leave this pin floating. Logic high activates the step-down regulator.", 4 PGOOD (oc) "VOUT within Regulation Indicator.", 5 FB (in) "Feedback Input to the Error Amplifier of the Step-Down Regulator. Connect a resistor divider tap to this pin.", 6 INTVCC (power) "Low Dropout Regulator. Bypass with at least 1uF to Ground.", 7 MODE (in) "Burst Mode Select of the Step-Down Regulator. Tie MODE to INTVCC for Burst Mode operation with a 400mA peak current clamp, tie MODE to GND for pulse skipping operation, and tie MODE to a voltage between 1V and VINTVCC - 1V (See Datasheet)", 8 GND, 9 EP (power) "Ground Backplane for Power and Signal Ground. Must be soldered to PCB ground."

## LTM8022MPV#PBF
designator U?
1 A, 36 V DC/DC uModule, 50-pin LGA, -55 to 125 degC, Pb-Free, Tray; Manufacturer: Linear Technology; PartNumber: LTM8022MPV#PBF; Extended Temp: E, MP; Frequency Adjust Range: 200kHz - 2.4MHz; Frequency Sync Range: 250kHz - 2MHz; Frequency(kHz): 2400; Ishutdown(uA): 1; Isupply(mA): 0.085; Switch Current(A): 2; Synchronous: no; Topology: Buck; Vin Max(V): 36; Vin Min(V): 3.6; Vout Max(V): 10; Vout Min(V): 0.8; DatasheetVersion: Rev. D; PackageVersion: Rev. C, 02/2013; PackageReference: LGA-50; PackageDescription: 50-Pin LGA, Body 11.25 x 9 mm, Pitch 1.27 mm; Supplier 1: Digi-Key; Supplier Part Number 1: LTM8022MPV#PBF-ND; Supplier 2: Farnell; Supplier Part Number 2: 2308405; Supplier 3: Newark; Supplier Part Number 3: 19P9345; Number of Outputs: 1; Output Current(A): 1; Packing: Tray; RoHS: TRUE; Tracking: no; Mounting Technology: Surface Mount; Code_JEDEC: MO-222; ComponentLink1Description: Manufacturer URL; ComponentLink1URL: http://www.linear.com/; ComponentLink2Description: Datasheet; ComponentLink2URL: http://cds.linear.com/docs/en/datasheet/8022fd.pdf; ComponentLink3Description: Package Specification; ComponentLink3URL: http://cds.linear.com/docs/en/packaging/05081804_C_lga50.pdf
footprint LT-LGA-50-05-08-1804_V (LGA, 50-Leads, Body 11.25x9mm, Pitch 1.27mm)
part A pins: A1 VOUT (power) "Power Output Pins. Apply the output ?lter capacitor and the output load between these pins and GND pins.", A2 VOUT (power) "Power Output Pins. Apply the output ?lter capacitor and the output load between these pins and GND pins.", A3 VOUT (power) "Power Output Pins. Apply the output ?lter capacitor and the output load between these pins and GND pins.", A4 VOUT (power) "Power Output Pins. Apply the output ?lter capacitor and the output load between these pins and GND pins.", B1 VOUT (power) "Power Output Pins. Apply the output ?lter capacitor and the output load between these pins and GND pins.", B2 VOUT (power) "Power Output Pins. Apply the output ?lter capacitor and the output load between these pins and GND pins.", B3 VOUT (power) "Power Output Pins. Apply the output ?lter capacitor and the output load between these pins and GND pins.", B4 VOUT (power) "Power Output Pins. Apply the output ?lter capacitor and the output load between these pins and GND pins.", C1 VOUT (power) "Power Output Pins. Apply the output ?lter capacitor and the output load between these pins and GND pins.", C2 VOUT (power) "Power Output Pins. Apply the output ?lter capacitor and the output load between these pins and GND pins.", C3 VOUT (power) "Power Output Pins. Apply the output ?lter capacitor and the output load between these pins and GND pins.", C4 VOUT (power) "Power Output Pins. Apply the output ?lter capacitor and the output load between these pins and GND pins.", F5 AUX (power) "Low current voltage source for BIAS. In many designs, the BIAS pin is simply connected to VOUT. The AUX pin is internally connected to VOUT and is placed adjacent to the BIAS pin to ease printed circuit board routing. (See Datasheet)", F7 SHARE "Tie this to the SHARE pin of another LTM8022 when paralleling the outputs. Otherwise, leave this pin ?oating.", G1 VIN (power) "The VIN pin supplies current to the LTM8022’s internal regulator and to the internal power switch. This pin must be locally bypassed with an external, low ESR capacitor of at least 2.2uF.", G2 VIN (power) "The VIN pin supplies current to the LTM8022’s internal regulator and to the internal power switch. This pin must be locally bypassed with an external, low ESR capacitor of at least 2.2uF.", G3 VIN (power) "The VIN pin supplies current to the LTM8022’s internal regulator and to the internal power switch. This pin must be locally bypassed with an external, low ESR capacitor of at least 2.2uF.", G5 BIAS (power) "The BIAS pin connects to the internal power bus. Connect to a power source greater than 2.4V. If the output is greater than 2.4V, connect this pin there. If the output voltage is less, connect this to a voltage source (See Datasheet)", G6 SYNC (in) "External Clock Synchronization Input. Ground this pin for low ripple Burst Mode(R) operation at low output loads, or connect to a stable voltage source above 0.7V to disable Burst Mode operation. Do not leave this pin (See Datasheet)", G7 RT (in) "The RT pin is used to program the switching frequency of the LTM8022 by connecting a resistor from this pin to ground. The Applications Information section of the data sheet includes a table to determine the resistance value (See Datasheet)", H1 VIN (power) "The VIN pin supplies current to the LTM8022’s internal regulator and to the internal power switch. This pin must be locally bypassed with an external, low ESR capacitor of at least 2.2uF.", H2 VIN (power) "The VIN pin supplies current to the LTM8022’s internal regulator and to the internal power switch. This pin must be locally bypassed with an external, low ESR capacitor of at least 2.2uF.", H3 VIN (power) "The VIN pin supplies current to the LTM8022’s internal regulator and to the internal power switch. This pin must be locally bypassed with an external, low ESR capacitor of at least 2.2uF.", H5 RUN/SS (in) "Tie RUN/SS pin to ground to shut down the LTM8022. Tie to 2.5V or more for normal operation. If the shutdown feature is not used, tie this pin to the VIN pin. RUN/SS also provides a soft-start function; see the Applications (See Datasheet)", H6 PG (oc) "Open Collector Output of an Internal Comparator. PG remains low until the ADJ pin is within 10% of the ? nal regulation voltage. PG output is valid when VIN is above 3.6V and RUN/SS is high. If this function is not used(See Datasheet)", H7 ADJ (in) "The LTM8022 regulates its ADJ pin to 0.79V. Connect the adjust resistor from this pin to ground. The value of RADJ is given by the equation, RADJ = 394.21/(VOUT -0.79), where RADJ is in kohm."
part B pins: A5 GND (power) "Tie these GND pins to a local ground plane below the LTM8022 and the circuit components. Return the feedback divider (RADJ) to this pin.", A6 GND (power) "Tie these GND pins to a local ground plane below the LTM8022 and the circuit components. Return the feedback divider (RADJ) to this pin.", A7 GND (power) "Tie these GND pins to a local ground plane below the LTM8022 and the circuit components. Return the feedback divider (RADJ) to this pin.", B5 GND (power) "Tie these GND pins to a local ground plane below the LTM8022 and the circuit components. Return the feedback divider (RADJ) to this pin.", B6 GND (power) "Tie these GND pins to a local ground plane below the LTM8022 and the circuit components. Return the feedback divider (RADJ) to this pin.", B7 GND (power) "Tie these GND pins to a local ground plane below the LTM8022 and the circuit components. Return the feedback divider (RADJ) to this pin.", C5 GND (power) "Tie these GND pins to a local ground plane below the LTM8022 and the circuit components. Return the feedback divider (RADJ) to this pin.", C6 GND (power) "Tie these GND pins to a local ground plane below the LTM8022 and the circuit components. Return the feedback divider (RADJ) to this pin.", C7 GND (power) "Tie these GND pins to a local ground plane below the LTM8022 and the circuit components. Return the feedback divider (RADJ) to this pin.", D1 GND (power) "Tie these GND pins to a local ground plane below the LTM8022 and the circuit components. Return the feedback divider (RADJ) to this pin.", D2 GND (power) "Tie these GND pins to a local ground plane below the LTM8022 and the circuit components. Return the feedback divider (RADJ) to this pin.", D3 GND (power) "Tie these GND pins to a local ground plane below the LTM8022 and the circuit components. Return the feedback divider (RADJ) to this pin.", D4 GND (power) "Tie these GND pins to a local ground plane below the LTM8022 and the circuit components. Return the feedback divider (RADJ) to this pin.", D5 GND (power) "Tie these GND pins to a local ground plane below the LTM8022 and the circuit components. Return the feedback divider (RADJ) to this pin.", D6 GND (power) "Tie these GND pins to a local ground plane below the LTM8022 and the circuit components. Return the feedback divider (RADJ) to this pin.", D7 GND (power) "Tie these GND pins to a local ground plane below the LTM8022 and the circuit components. Return the feedback divider (RADJ) to this pin.", E1 GND (power) "Tie these GND pins to a local ground plane below the LTM8022 and the circuit components. Return the feedback divider (RADJ) to this pin.", E2 GND (power) "Tie these GND pins to a local ground plane below the LTM8022 and the circuit components. Return the feedback divider (RADJ) to this pin.", E3 GND (power) "Tie these GND pins to a local ground plane below the LTM8022 and the circuit components. Return the feedback divider (RADJ) to this pin.", E4 GND (power) "Tie these GND pins to a local ground plane below the LTM8022 and the circuit components. Return the feedback divider (RADJ) to this pin.", E5 GND (power) "Tie these GND pins to a local ground plane below the LTM8022 and the circuit components. Return the feedback divider (RADJ) to this pin.", E6 GND (power) "Tie these GND pins to a local ground plane below the LTM8022 and the circuit components. Return the feedback divider (RADJ) to this pin.", E7 GND (power) "Tie these GND pins to a local ground plane below the LTM8022 and the circuit components. Return the feedback divider (RADJ) to this pin.", F6 GND (power) "Tie these GND pins to a local ground plane below the LTM8022 and the circuit components. Return the feedback divider (RADJ) to this pin."